# EAGLE library part SN74*2G14 (library bschulz)
SN74x2G14 - Dual Schmitt Triger Inverter Characteristics: VCC: 0.8 ~ 3.6V (1.65 ~ 5.5V for LVC Version) Operating Temperature: -40°C to 85°C (-40°C to 125°C for LVC Version) fmax = 2.5 MHz (for Vcc =1.65v, high for higher Vcc) Output Current = ± 4 mA (± 32 mA for LVC Version) Digikey: 296-27361-1-ND (SC70, AUP Low Voltage) <https://www.digikey.com/product-detail/en/texas-instruments/SN74AUP2G14DCKR/296-27361-1-ND/2279322> 296-13011-1-ND (SC70, LVC High Voltage) <https://www.digikey.com/product-detail/en/texas-instruments/SN74LVC2G14DCKR/296-13011-1-ND/479732>
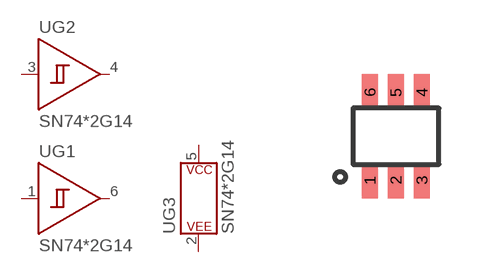
[diagram p97: symbol with the pads of DCK_R-PDSO-G6; footprint DCK_R-PDSO-G6]

Designator prefix U; gates G1=GATE_INVERTER_SCHMITT_TRIGGER-1 G3=POWER_CONSORT G2=GATE_INVERTER_SCHMITT_TRIGGER-1

## SN742G14SC70, SN74AUP2G14SC70 (DIGIKEY: 296-27361-1-ND; MF: TI; MPN: SN74AUP2G14DCKR), SN74LVC2G14SC70 (DIGIKEY: 296-13011-1-ND; MF: TI; MPN: SN74LVC2G14DCKR)  [DCK_R-PDSO-G6]
1  G1:A
2  G3:P$V-
3  G2:A
4  G2:Y
5  G3:P$V+
6  G1:Y

## Footprint DCK_R-PDSO-G6 (pad centres in mm)
smd 0.4 x 0.9: 1 -0.65,-1.1; 2 0,-1.1; 3 0.65,-1.1; 4 0.65,1.1; 5 0,1.1; 6 -0.65,1.1